# Altium footprint library LL_project.PcbLib: 15 footprints
Each footprint in its own frame and in the unit in brackets; x right, y up, seen from the top. Pads: shape width x height; smd on the part's side, far side on the other; paste and mask are expansions set on the pad; w line width, h text height; cw(c..) or ccw(c..) is an arc to the next point about the centre after c.
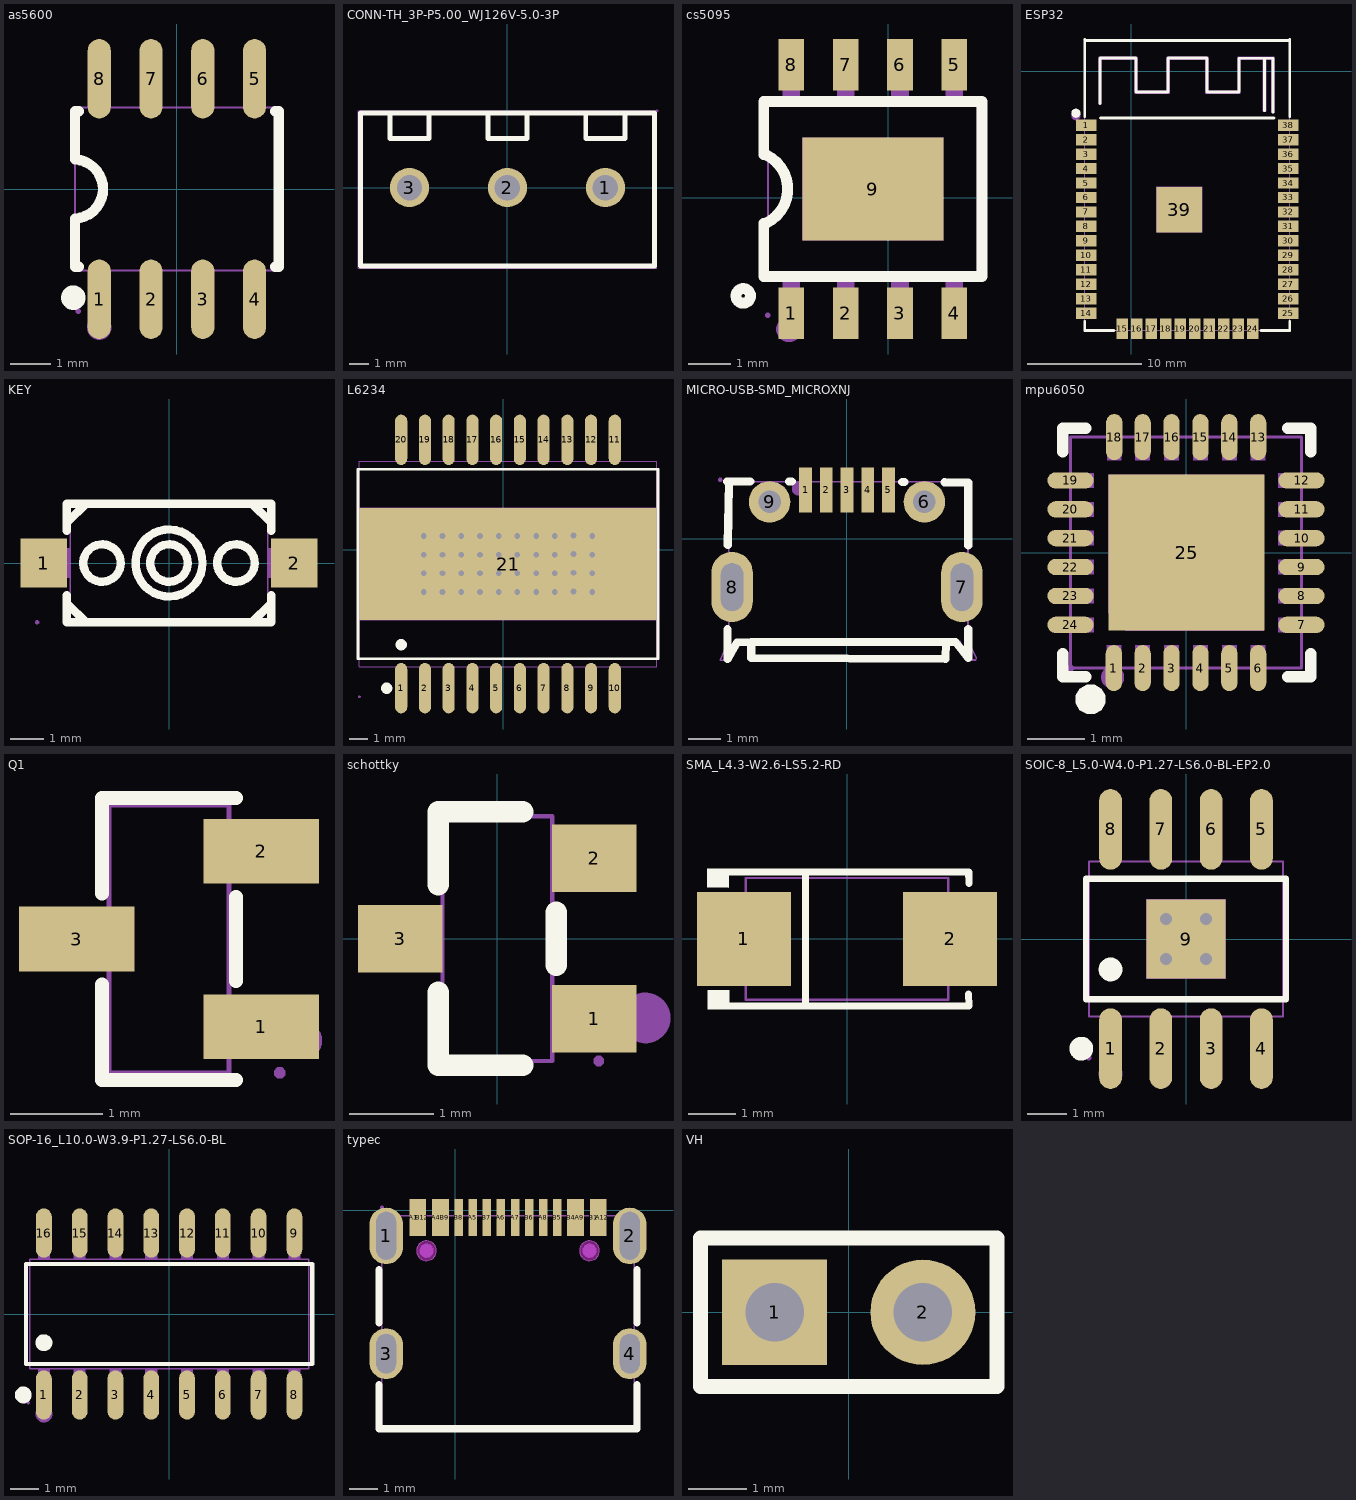
[diagram p0: the footprints below, top view; thin cyan lines are the x and y axes]

## as5600 [mil]
pads (8):
  oval 22.38x76.78 smd mask+2: 1(-75,-106.5) 2(-25,-106.5) 3(25,-106.5) 4(75,-106.5) 5(75,106.5) 6(25,106.5) 7(-25,106.5) 8(-75,106.5)
Top Overlay:
  circle w11.81: c-100,-105 r5.91
  lines w10: -98.43,-28.61 ccw(c-99.99,0) -98.23,28.59 ; -98.42,-28.61 -98.42,-59.05 -98.42,-75 -94.83,-75 ; -98.42,28.59 -98.42,59.05 -98.42,75 -94.83,75 ; 94.83,-75 98.42,-75 98.42,-59.05 98.42,59.05 98.42,75 94.83,75
Mechanical 6:
  circle w11.81: c-75,-133.86 r5.91
Mechanical 15:
  region: -83.07,-118.11 -83.07,-85.24 -66.93,-85.24 -66.93,-118.11
  region: -83.07,-85.63 -83.07,-76.38 -66.93,-76.38 -66.93,-85.63
  region: -33.07,-118.11 -33.07,-85.24 -16.93,-85.24 -16.93,-118.11
  region: -33.07,-85.63 -33.07,-76.38 -16.93,-76.38 -16.93,-85.63
  region: 16.93,-118.11 16.93,-85.24 33.07,-85.24 33.07,-118.11
  region: 16.93,-85.63 16.93,-76.38 33.07,-76.38 33.07,-85.63
  region: 66.93,-118.11 66.93,-85.24 83.07,-85.24 83.07,-118.11
  region: 66.93,-85.63 66.93,-76.38 83.07,-76.38 83.07,-85.63
  region: -83.07,85.24 -83.07,118.11 -66.93,118.11 -66.93,85.24
  region: -83.07,76.38 -83.07,85.63 -66.93,85.63 -66.93,76.38
  region: -33.07,85.24 -33.07,118.11 -16.93,118.11 -16.93,85.24
  region: -33.07,76.38 -33.07,85.63 -16.93,85.63 -16.93,76.38
  region: 16.93,85.24 16.93,118.11 33.07,118.11 33.07,85.24
  region: 16.93,76.38 16.93,85.63 33.07,85.63 33.07,76.38
  region: 66.93,85.24 66.93,118.11 83.07,118.11 83.07,85.24
  region: 66.93,76.38 66.93,85.63 83.07,85.63 83.07,76.38
  region: -92.92,-118.11 -92.92,-117.13 -94.3,-115.75 -96.26,-115.75 -97.64,-117.13 -97.64,-118.11 -97.64,-119.09 -96.26,-120.47 -94.3,-120.47 -92.92,-119.09
  lines w2: -98.42,-78.74 98.42,-78.74 98.42,78.74 -98.42,78.74 -98.42,-78.74

## CONN-TH_3P-P5.00_WJ126V-5.0-3P [mm]
pads (3):
  round 1.999 hole 1.3 mask+0.051: 1(5.001,0) 2(0,0) 3(-4.999,0)
Top Overlay:
  lines w0.254: -5.999,3.8 -5.999,2.499 -4,2.499 -4,3.8 ; -1.001,3.8 -1.001,2.499 1.001,2.499 1.001,3.8 ; 4,3.8 4,2.499 5.999,2.499 5.999,3.8 ; -7.501,-4 -2.499,-4 7.501,-4 7.501,0 7.501,3.8 -2.499,3.8 -7.501,3.8 -7.501,0 -7.501,-4
Mechanical 15:
  region: 5.552,0 5.552,0.11 5.469,0.312 5.313,0.467 5.111,0.551 4.892,0.551 4.689,0.467 4.534,0.312 4.45,0.11 4.45,0 4.45,-0.11 4.534,-0.312 4.689,-0.467 4.892,-0.551 5.111,-0.551 5.313,-0.467 5.469,-0.312 5.552,-0.11 5.552,0
  region: 0.551,0 0.551,0.11 0.467,0.312 0.312,0.467 0.11,0.551 -0.11,0.551 -0.312,0.467 -0.467,0.312 -0.551,0.11 -0.551,0 -0.551,-0.11 -0.467,-0.312 -0.312,-0.467 -0.11,-0.551 0.11,-0.551 0.312,-0.467 0.467,-0.312 0.551,-0.11 0.551,0
  region: -4.448,0 -4.448,0.11 -4.531,0.312 -4.687,0.467 -4.889,0.551 -5.108,0.551 -5.311,0.467 -5.466,0.312 -5.55,0.11 -5.55,0 -5.55,-0.11 -5.466,-0.312 -5.311,-0.467 -5.108,-0.551 -4.889,-0.551 -4.687,-0.467 -4.531,-0.312 -4.448,-0.11 -4.448,0
  region: 7.689,3.927 7.689,3.952 7.653,3.988 7.602,3.988 7.567,3.952 7.567,3.927 7.567,3.902 7.602,3.866 7.653,3.866 7.689,3.902 7.689,3.927
  lines w0.051: -7.628,-4.127 7.628,-4.127 7.628,3.927 -7.628,3.927 -7.628,-4.127

## cs5095 [mm]
pads (9):
  rect 0.6x1.2 smd mask+0.051: 1(-2.261,-2.702) 2(-0.991,-2.702) 3(0.279,-2.702) 4(1.549,-2.702) 5(1.549,3.115) 6(0.279,3.115) 7(-0.991,3.115) 8(-2.261,3.115)
  rect 3.3x2.4 smd mask+0.051: 9(-0.356,0.206)
Top Overlay:
  circle w0.254: c-3.386,-2.294 r0.17
  lines w0.254: -2.906,-0.594 -2.906,-1.844 2.194,-1.844 2.194,2.256 -2.906,2.256 -2.906,1.006 ; -2.856,-0.594 ccw(c-3.231,0.206) -2.856,1.006
Mechanical 6:
  circle w0.3: c-2.316,-3.074 r0.15
Mechanical 15:
  region: -2.75,-2.744 -2.75,-2.719 -2.785,-2.684 -2.835,-2.684 -2.87,-2.719 -2.87,-2.744 -2.87,-2.768 -2.835,-2.804 -2.785,-2.804 -2.75,-2.768
  region: -2.461,2.146 -2.461,2.516 -2.061,2.516 -2.061,2.146
  region: -2.461,2.506 -2.461,3.156 -2.061,3.156 -2.061,2.506
  region: -1.191,2.146 -1.191,2.516 -0.791,2.516 -0.791,2.146
  region: -1.191,2.506 -1.191,3.156 -0.791,3.156 -0.791,2.506
  region: 0.079,2.146 0.079,2.516 0.479,2.516 0.479,2.146
  region: 0.079,2.506 0.079,3.156 0.479,3.156 0.479,2.506
  region: 1.349,2.146 1.349,2.516 1.749,2.516 1.749,2.146
  region: 1.349,2.506 1.349,3.156 1.749,3.156 1.749,2.506
  region: -2.461,-2.104 -2.461,-1.734 -2.061,-1.734 -2.061,-2.104
  region: -2.461,-2.744 -2.461,-2.094 -2.061,-2.094 -2.061,-2.744
  region: -1.191,-2.104 -1.191,-1.734 -0.791,-1.734 -0.791,-2.104
  region: -1.191,-2.744 -1.191,-2.094 -0.791,-2.094 -0.791,-2.744
  region: 0.079,-2.104 0.079,-1.734 0.479,-1.734 0.479,-2.104
  region: 0.079,-2.744 0.079,-2.094 0.479,-2.094 0.479,-2.744
  region: 1.349,-2.104 1.349,-1.734 1.749,-1.734 1.749,-2.104
  region: 1.349,-2.744 1.349,-2.094 1.749,-2.094 1.749,-2.744
  region: 1.294,-0.994 -2.006,-0.994 -2.006,1.406 1.294,1.406
  lines w0.051: -2.806,-1.744 2.094,-1.744 2.094,2.156 -2.806,2.156 -2.806,-1.744

## ESP32 [mm]
pads (39):
  rect 1.8x1.001 smd mask+0.051: 1(-3.961,-4.734) 2(-3.961,-6.004) 3(-3.961,-7.274) 4(-3.961,-8.544) 5(-3.961,-9.814) 6(-3.961,-11.084) 7(-3.961,-12.354) 8(-3.961,-13.624) 9(-3.961,-14.894) 10(-3.961,-16.164) 11(-3.961,-17.434) 12(-3.961,-18.704) 13(-3.961,-19.974) 14(-3.961,-21.244) 25(13.741,-21.244) 26(13.741,-19.974) 27(13.741,-18.704) 28(13.741,-17.434) 29(13.741,-16.164) 30(13.741,-14.894) 31(13.741,-13.624) 32(13.741,-12.354) 33(13.741,-11.084) 34(13.741,-9.814) 35(13.741,-8.544) 36(13.741,-7.274) 37(13.741,-6.004) 38(13.741,-4.734)
  rect 1.001x1.8 smd mask+0.051: 15(-0.8,-22.595) 16(0.47,-22.595) 17(1.74,-22.595) 18(3.01,-22.595) 19(4.28,-22.595) 20(5.55,-22.595) 21(6.82,-22.595) 22(8.09,-22.595) 23(9.36,-22.595) 24(10.63,-22.595)
  rect 4x4 smd mask+0.051: 39(4.19,-12.145)
Top Overlay:
  circle w0.4: c-4.88,-3.695 r0.2
  lines w0.254: -4.102,-21.976 -4.102,-22.743 -1.531,-22.743 ; -4.102,-4.003 -4.102,2.759 ; -4.102,2.7 13.882,2.7 ; -2.763,-2.85 -2.763,1.14 0.407,1.14 0.407,-1.83 3.207,-1.83 3.207,1.14 6.607,1.14 6.607,-1.83 9.427,-1.83 9.427,1.13 12.407,1.13 12.407,-3.61 ; -2.73,-4.125 12.51,-4.125 ; 11.362,-22.743 13.882,-22.743 13.882,-21.976 ; 11.66,-3.48 11.66,1.13 ; 13.882,-4.003 13.882,2.759
Mechanical 6:
  circle w0.4: c-4.88,-3.915 r0.2
  region: 12.24,-3.625 12.24,0.995 11.85,0.995 11.8,0.995 11.8,-3.535 11.53,-3.535 11.53,0.995 9.55,0.995 9.55,-1.965 6.47,-1.965 6.47,0.995 6.46,1.005 3.35,1.005 3.35,-1.975 0.27,-1.975 0.27,1.005 -2.64,1.005 -2.64,-2.965 -2.89,-2.965 -2.89,1.265 0.52,1.265 0.52,-1.695 0.53,-1.705 3.08,-1.705 3.08,1.265 3.09,1.275 6.72,1.275 6.72,-1.695 6.73,-1.705 9.29,-1.705 9.3,-1.695 9.3,1.245 9.29,1.255 12.53,1.255 12.53,-3.635
Mechanical 15:
  drawing of 44 lines, arcs and shapes, not listed

## KEY [mm]
pads (2):
  rect 1.4x1.5 smd mask+0.051: 1(-3.8,0) 2(3.8,0)
Top Overlay:
  circle w0.254: c0,0 r0.568
  circle w0.254: c0,0 r1.016
  circle w0.254: c2.032,0 r0.568
  circle w0.254: c-2.032,0 r0.568
  lines w0.254: -3.1,-0.981 -3.1,-1.8 3.1,-1.8 3.1,-0.981 ; -3.1,0.981 -3.1,1.8 3.1,1.8 3.1,0.981 ; -3.048,-1.27 -2.54,-1.778 ; -3.048,1.27 -2.54,1.778 ; 2.54,-1.778 3.048,-1.27 ; 2.54,1.778 3.048,1.27
Mechanical 15:
  region: -3.94,-1.8 -3.94,-1.775 -3.975,-1.74 -4.025,-1.74 -4.06,-1.775 -4.06,-1.8 -4.06,-1.825 -4.025,-1.86 -3.975,-1.86 -3.94,-1.825
  region: 2.99,-0.45 2.99,0.45 3.31,0.45 3.31,-0.45
  region: 3.3,-0.45 3.3,0.45 4,0.45 4,-0.45
  region: -3.3,0.45 -3.3,-0.45 -4,-0.45 -4,0.45
  region: -2.99,0.45 -2.99,-0.45 -3.31,-0.45 -3.31,0.45
  lines w0.051: -3,-1.8 -3,1.8 3,1.8 3,-1.8 -3,-1.8

## L6234 [mil]
pads (21):
  oval 25.6x106.1 smd mask+2: 1(-214.7,-291.4) 2(-164.7,-291.4) 3(-114.7,-291.4) 4(-64.7,-291.4) 5(-14.7,-291.4) 6(35.3,-291.4) 7(85.3,-291.4) 8(135.3,-291.4) 9(185.3,-291.4) 10(235.3,-291.4) 11(235.3,232) 12(185.3,232) 13(135.3,232) 14(85.3,232) 15(35.3,232) 16(-14.7,232) 17(-64.7,232) 18(-114.7,232) 19(-164.7,232) 20(-214.7,232)
  rect 626x236.2 smd mask+2: 21(10.3,-29.7)
via -166.9,29.4 diameter 24 hole 12
via -127.5,29.4 diameter 24 hole 12
via -88.1,29.4 diameter 24 hole 12
via -48.7,29.4 diameter 24 hole 12
via -9.4,29.4 diameter 24 hole 12
via 30,29.4 diameter 24 hole 12
via 70,29.4 diameter 24 hole 12
via 108.7,29.4 diameter 24 hole 12
via 148.1,30.5 diameter 24 hole 12
via 187.5,29.4 diameter 24 hole 12
via -166.9,-10 diameter 24 hole 12
via -127.5,-10 diameter 24 hole 12
via -88.1,-10 diameter 24 hole 12
via -48.7,-10 diameter 24 hole 12
via -9.4,-10 diameter 24 hole 12
via 30,-10 diameter 24 hole 12
via 70,-10 diameter 24 hole 12
via 108.7,-10 diameter 24 hole 12
via 148.1,-8.8 diameter 24 hole 12
via 187.5,-10 diameter 24 hole 12
via -166.9,-49.4 diameter 24 hole 12
via -127.5,-49.4 diameter 24 hole 12
via -88.1,-49.4 diameter 24 hole 12
via -48.7,-49.4 diameter 24 hole 12
via -9.4,-49.4 diameter 24 hole 12
via 30,-49.4 diameter 24 hole 12
via 70,-49.4 diameter 24 hole 12
via 108.7,-49.4 diameter 24 hole 12
via 148.1,-48.2 diameter 24 hole 12
via 187.5,-49.4 diameter 24 hole 12
via -166.9,-88.8 diameter 24 hole 12
via -127.5,-88.8 diameter 24 hole 12
via -88.1,-88.8 diameter 24 hole 12
via -48.8,-88.8 diameter 24 hole 12
via -9.4,-88.8 diameter 24 hole 12
via 30,-88.8 diameter 24 hole 12
via 70,-88.8 diameter 24 hole 12
via 108.7,-88.8 diameter 24 hole 12
via 148.1,-87.6 diameter 24 hole 12
via 187.5,-88.8 diameter 24 hole 12
Top Overlay:
  circle w11.8: c-245.3,-291.4 r5.9
  circle w11.8: c-214.7,-199.7 r5.9
  lines w6: -305.7,-229.4 326.3,-229.4 326.3,170 -305.7,170 -305.7,-229.4
Mechanical 6:
  circle w11.8: c-214.7,-325 r5.9
Mechanical 15:
  drawing of 46 lines, arcs and shapes, not listed

## MICRO-USB-SMD_MICROXNJ [mm]
pads (9):
  rect 0.4x1.4 smd mask+0.051: 1(-1.3,1.521) 2(-0.65,1.521) 3(0,1.521) 4(0.65,1.521) 5(1.3,1.521)
  round 1.3 hole 0.7 mask+0.051: 6(2.425,1.149) 9(-2.425,1.149)
  oval 1.3x2.2 hole 0.7 slot 1.5 at 90 deg mask+0.051: 7(3.6,-1.521) 8(-3.6,-1.521)
Top Overlay:
  lines w0.254: -3.76,1.79 -3.031,1.787 ; -3.745,-2.84 -3.75,-3.78 -3.45,-3.26 -3,-3.24 ; -3.733,-0.2 -3.732,-0.026 ; -3.731,0.007 -3.735,-0.201 -3.7,1.76 ; -1.814,1.782 -1.731,1.782 ; 1.731,1.768 1.799,1.768 ; 3.056,1.763 3.8,1.76 3.8,-0.213 ; 3.8,-2.829 3.8,-3.74 3.4,-3.24 3.1,-3.24 ; -3,-3.24 3.1,-3.24 ; -3,-3.24 -3,-3.74 3.09,-3.77 3.1,-3.24
Top Paste:
  drawing of 9 lines, arcs and shapes, not listed
Mechanical 6:
  circle w0.2: c-1.53,1.554 r0.1
Mechanical 15:
  region: 1.175,0.841 1.175,1.841 1.425,1.841 1.425,0.841
  region: 0.525,0.841 0.525,1.841 0.775,1.841 0.775,0.841
  region: -0.125,0.841 -0.125,1.841 0.125,1.841 0.125,0.841
  region: -0.775,0.841 -0.775,1.841 -0.525,1.841 -0.525,0.841
  region: -1.425,0.841 -1.425,1.841 -1.175,1.841 -1.175,0.841
  region: 2.175,1.049 2.175,1.249 2.675,1.249 2.675,1.049
  region: -2.675,1.049 -2.675,1.249 -2.175,1.249 -2.175,1.049
  region: 3.45,-1.066 3.75,-1.066 3.75,-1.976 3.45,-1.976
  region: -3.75,-1.066 -3.45,-1.066 -3.45,-1.976 -3.75,-1.976
  region: -3.91,1.841 -3.91,1.866 -3.945,1.901 -3.995,1.901 -4.03,1.866 -4.03,1.841 -4.03,1.816 -3.995,1.781 -3.945,1.781 -3.91,1.816
  lines w0.051: -3.97,-3.806 -3.7,-3.206 -3.7,1.774 -3.7,1.784 3.79,1.784 3.79,-3.196 4.05,-3.746 4.03,-3.806 3.83,-3.806 3.54,-3.216 3.15,-3.216 3.15,-3.816 -3.03,-3.806 -3.05,-3.806 -3.05,-3.216 -3.45,-3.216 -3.74,-3.816 -3.97,-3.806

## mpu6050 [mm]
pads (25):
  oval 0.28x0.8 smd mask+0.05: 1(-1.25,-2) 2(-0.75,-2) 3(-0.25,-2) 4(0.25,-2) 5(0.75,-2) 6(1.25,-2) 13(1.25,2) 14(0.75,2) 15(0.25,2) 16(-0.25,2) 17(-0.75,2) 18(-1.242,2)
  oval 0.8x0.28 smd mask+0.05: 7(2,-1.25) 8(2,-0.75) 9(2,-0.25) 10(2,0.25) 11(2,0.75) 12(2,1.25) 19(-2,1.25) 20(-2,0.75) 21(-2,0.25) 22(-2,-0.25) 23(-2,-0.75) 24(-2,-1.25)
  rect 2.7x2.7 smd mask+0.05: 25(0.012,0)
Top Overlay:
  region: -1.397,-2.539 -1.397,-2.471 -1.466,-2.353 -1.584,-2.286 -1.72,-2.286 -1.837,-2.354 -1.905,-2.472 -1.905,-2.608 -1.837,-2.726 -1.72,-2.794 -1.584,-2.794 -1.466,-2.727 -1.397,-2.609 -1.397,-2.541
  lines w0.2: -2.138,-1.75 -2.138,-2.15 -1.738,-2.15 ; -2.138,1.75 -2.138,2.15 -1.738,2.15 ; 1.763,-2.15 2.163,-2.15 2.163,-1.75 ; 1.763,2.15 2.163,2.15 2.163,1.75
Top Paste:
  drawing of 25 lines, arcs and shapes, not listed
Mechanical 6:
  circle w0.2: c-1.27,-2.159 r0.1
Mechanical 15:
  region: -1.94,-2 -1.94,-1.975 -1.975,-1.94 -2.025,-1.94 -2.06,-1.975 -2.06,-2 -2.06,-2.025 -2.025,-2.06 -1.975,-2.06 -1.94,-2.025
  region: -1.35,-1.05 -1.35,1.35 1.35,1.35 1.35,-1.35 -1.05,-1.35
  region: -2,-1.375 -2,-1.125 -1.6,-1.125 -1.6,-1.375
  region: -2,-0.875 -2,-0.625 -1.6,-0.625 -1.6,-0.875
  region: -2,-0.375 -2,-0.125 -1.6,-0.125 -1.6,-0.375
  region: -2,0.125 -2,0.375 -1.6,0.375 -1.6,0.125
  region: -2,0.625 -2,0.875 -1.6,0.875 -1.6,0.625
  region: -2,1.125 -2,1.375 -1.6,1.375 -1.6,1.125
  region: -1.367,1.6 -1.367,2 -1.117,2 -1.117,1.6
  region: -0.875,1.6 -0.875,2 -0.625,2 -0.625,1.6
  region: -0.375,1.6 -0.375,2 -0.125,2 -0.125,1.6
  region: 0.125,1.6 0.125,2 0.375,2 0.375,1.6
  region: 0.625,1.6 0.625,2 0.875,2 0.875,1.6
  region: 1.125,1.6 1.125,2 1.375,2 1.375,1.6
  region: 1.6,1.125 1.6,1.375 2,1.375 2,1.125
  region: 1.6,0.625 1.6,0.875 2,0.875 2,0.625
  region: 1.6,0.125 1.6,0.375 2,0.375 2,0.125
  region: 1.6,-0.375 1.6,-0.125 2,-0.125 2,-0.375
  region: 1.6,-0.875 1.6,-0.625 2,-0.625 2,-0.875
  region: 1.6,-1.375 1.6,-1.125 2,-1.125 2,-1.375
  region: 1.125,-2 1.125,-1.6 1.375,-1.6 1.375,-2
  region: 0.625,-2 0.625,-1.6 0.875,-1.6 0.875,-2
  region: 0.125,-2 0.125,-1.6 0.375,-1.6 0.375,-2
  region: -0.375,-2 -0.375,-1.6 -0.125,-1.6 -0.125,-2
  region: -0.875,-2 -0.875,-1.6 -0.625,-1.6 -0.625,-2
  region: -1.375,-2 -1.375,-1.6 -1.125,-1.6 -1.125,-2
  lines w0.051: -2,-2 -2,2 2,2 2,-2 -2,-2

## Q1 [mm]
pads (3):
  rect 1.25x0.7 smd mask+0.051: 1(16.595,-8.187) 2(16.595,-6.287) 3(14.595,-7.237)
Top Overlay:
  lines w0.152: 14.869,-7.731 14.869,-8.763 16.321,-8.763 ; 14.869,-6.742 14.869,-5.711 16.321,-5.711 ; 16.321,-7.692 16.321,-6.781
Mechanical 6:
  circle w0.2: c17.055,-8.337 r0.1
Mechanical 15:
  region: 16.855,-8.687 16.855,-8.662 16.82,-8.627 16.77,-8.627 16.735,-8.662 16.735,-8.687 16.735,-8.712 16.77,-8.747 16.82,-8.747 16.855,-8.712
  region: 16.235,-6.502 16.235,-6.072 16.505,-6.072 16.505,-6.502
  region: 16.495,-6.502 16.495,-6.072 16.795,-6.072 16.795,-6.502
  region: 16.235,-8.402 16.235,-7.972 16.505,-7.972 16.505,-8.402
  region: 16.495,-8.402 16.495,-7.972 16.795,-7.972 16.795,-8.402
  region: 14.685,-7.452 14.685,-7.022 14.955,-7.022 14.955,-7.452
  region: 14.395,-7.452 14.395,-7.022 14.695,-7.022 14.695,-7.452
  lines w0.051: 14.945,-8.687 14.945,-5.787 16.245,-5.787 16.245,-8.687 14.945,-8.687

## schottky [mm]
pads (3):
  rect 1x0.8 smd mask+0.051: 1(1.15,-0.95) 2(1.15,0.95) 3(-1.15,0)
Top Overlay:
  lines w0.254: -0.7,-0.636 -0.7,-1.5 0.3,-1.5 ; -0.7,0.636 -0.7,1.5 0.3,1.5 ; 0.7,-0.314 0.7,0.314
Mechanical 6:
  circle w0.3: c1.753,-0.94 r0.15
Mechanical 15:
  region: -1.2,-0.2 -1.2,0.2 -0.8,0.2 -0.8,-0.2
  region: -0.81,-0.2 -0.81,0.2 -0.64,0.2 -0.64,-0.2
  region: 0.8,0.75 0.8,1.15 1.2,1.15 1.2,0.75
  region: 0.64,0.75 0.64,1.15 0.81,1.15 0.81,0.75
  region: 0.8,-1.15 0.8,-0.75 1.2,-0.75 1.2,-1.15
  region: 0.64,-1.15 0.64,-0.75 0.81,-0.75 0.81,-1.15
  region: 1.26,-1.45 1.26,-1.425 1.225,-1.39 1.175,-1.39 1.14,-1.425 1.14,-1.45 1.14,-1.475 1.175,-1.51 1.225,-1.51 1.26,-1.475
  lines w0.051: -0.65,-1.45 0.65,-1.45 0.65,1.45 -0.65,1.45 -0.65,-1.45

## SMA_L4.3-W2.6-LS5.2-RD [mm]
pads (2):
  rect 2x2 smd mask+0.051: 1(-2.2,0) 2(2.2,0)
Top Overlay:
  region: -2.52,1.502 -2.521,1.096 -2.981,1.1 -2.977,1.502
  region: -2.512,-1.096 -2.513,-1.503 -2.973,-1.498 -2.969,-1.096
  lines w0.152: -2.596,-1.426 2.596,-1.426 ; -2.596,1.426 2.596,1.426 2.603,1.187 ; -0.884,-1.426 -0.884,1.426 ; 2.593,-1.176 2.6,-1.415
Mechanical 6:
  region: -2.317,-0.101 -2.317,0.101 -1.507,0.101 -1.507,-0.101
  region: 2.29,-0.09 2.29,0.112 1.48,0.112 1.48,-0.09
  region: 2.014,-0.675 2.014,0.675 1.811,0.675 1.811,-0.675
Mechanical 15:
  region: -2.545,-1.3 -2.545,-1.275 -2.58,-1.24 -2.63,-1.24 -2.665,-1.275 -2.665,-1.3 -2.665,-1.325 -2.63,-1.36 -2.58,-1.36 -2.545,-1.325
  region: 2.605,0.725 2.605,-0.725 1.48,-0.725 1.48,0.725
  region: -1.48,0.725 -1.48,-0.725 -2.605,-0.725 -2.605,0.725
  lines w0.051: -2.16,-1.3 -2.16,1.3 2.16,1.3 2.16,-1.3 -2.16,-1.3

## SOIC-8_L5.0-W4.0-P1.27-LS6.0-BL-EP2.0 [mil]
pads (9):
  oval 22.6x80.2 smd mask+2: 1(-75,-109) 2(-25,-109) 3(25,-109) 4(75,-109) 5(75,109) 6(25,109) 7(-25,109) 8(-75,109)
  rect 78.7x78.7 smd mask+2: 9(0,0)
via 19.7,-19.7 diameter 24 hole 12
via -19.7,-19.7 diameter 24 hole 12
via -19.7,19.7 diameter 24 hole 12
via 19.7,19.7 diameter 24 hole 12
Top Overlay:
  circle w11.8: c-104.1,-109 r5.9
  circle w11.8: c-75,-30.3 r5.9
  lines w6: -99.5,-59.9 99.5,-59.9 99.5,59.9 -99.5,59.9 -99.5,-59.9
Mechanical 6:
  circle w11.8: c-75,-133.9 r5.9
Mechanical 15:
  region: -39.4,-39.4 -39.4,39.4 39.4,39.4 39.4,-39.4
  region: 66.9,85.6 66.9,76.4 83.1,76.4 83.1,85.6
  region: 66.9,118.1 66.9,85.2 83.1,85.2 83.1,118.1
  region: 16.9,85.6 16.9,76.4 33.1,76.4 33.1,85.6
  region: 16.9,118.1 16.9,85.2 33.1,85.2 33.1,118.1
  region: -33.1,85.6 -33.1,76.4 -16.9,76.4 -16.9,85.6
  region: -33.1,118.1 -33.1,85.2 -16.9,85.2 -16.9,118.1
  region: -83.1,85.6 -83.1,76.4 -66.9,76.4 -66.9,85.6
  region: -83.1,118.1 -83.1,85.2 -66.9,85.2 -66.9,118.1
  region: 66.9,-85.6 66.9,-76.4 83.1,-76.4 83.1,-85.6
  region: 66.9,-118.1 66.9,-85.2 83.1,-85.2 83.1,-118.1
  region: 16.9,-85.6 16.9,-76.4 33.1,-76.4 33.1,-85.6
  region: 16.9,-118.1 16.9,-85.2 33.1,-85.2 33.1,-118.1
  region: -33.1,-85.6 -33.1,-76.4 -16.9,-76.4 -16.9,-85.6
  region: -33.1,-118.1 -33.1,-85.2 -16.9,-85.2 -16.9,-118.1
  region: -83.1,-85.6 -83.1,-76.4 -66.9,-76.4 -66.9,-85.6
  region: -83.1,-118.1 -83.1,-85.2 -66.9,-85.2 -66.9,-118.1
  region: -94.1,-118.1 -94.1,-117.11 -95.51,-115.7 -97.49,-115.7 -98.9,-117.11 -98.9,-118.1 -98.9,-119.09 -97.49,-120.5 -95.51,-120.5 -94.1,-119.09
  lines w2: -96.5,-76.8 96.5,-76.8 96.5,76.8 -96.5,76.8 -96.5,-76.8

## SOP-16_L10.0-W3.9-P1.27-LS6.0-BL [mm]
pads (16):
  oval 0.56x1.745 smd mask+0.051: 1(-4.445,-2.872) 2(-3.175,-2.872) 3(-1.905,-2.872) 4(-0.635,-2.872) 5(0.635,-2.872) 6(1.905,-2.872) 7(3.175,-2.872) 8(4.445,-2.872) 9(4.445,2.872) 10(3.175,2.872) 11(1.905,2.872) 12(0.635,2.872) 13(-0.635,2.872) 14(-1.905,2.872) 15(-3.175,2.872) 16(-4.445,2.872)
Top Overlay:
  circle w0.3: c-4.445,-1.019 r0.15
  circle w0.3: c-5.177,-2.872 r0.15
  lines w0.152: -5.076,-1.771 -5.076,1.771 5.076,1.771 5.076,-1.771 -5.076,-1.771
Mechanical 6:
  circle w0.3: c-4.445,-3.55 r0.15
Mechanical 15:
  drawing of 37 lines, arcs and shapes, not listed

## typec [mm]
pads (20):
  oval 1.2x2 hole 0.7 slot 1.7 at 90 deg mask+0.051: 1(-2.452,-0.902) 2(6.188,-0.902)
  oval 1.2x1.8 hole 0.7 slot 1.4 at 90 deg mask+0.051: 3(-2.452,-5.082) 4(6.188,-5.082)
  rect 0.3x1.3 smd mask+0.05: A1(-1.482,-0.252) A4(-0.682,-0.252) A5(0.618,-0.252) A6(1.618,-0.252) A7(2.118,-0.252) A8(3.118,-0.252) A9(4.418,-0.252) A12(5.218,-0.252) B1(4.918,-0.252) B4(4.118,-0.252) B5(3.618,-0.252) B6(2.618,-0.252) B7(1.118,-0.252) B8(0.118,-0.252) B9(-0.382,-0.252) B12(-1.182,-0.252)
Top Overlay:
  lines w0.254: -2.704,-6.174 -2.704,-7.747 6.44,-7.747 6.44,-6.174 ; -2.704,-3.99 -2.704,-2.094 ; 6.44,-3.99 6.44,-2.094
Top Paste:
  drawing of 16 lines, arcs and shapes, not listed
Keep-Out Layer:
  board cut-out: -0.672,-1.432 -0.672,-1.362 -0.725,-1.234 -0.824,-1.135 -0.952,-1.082 -1.092,-1.082 -1.22,-1.135 -1.319,-1.234 -1.372,-1.362 -1.372,-1.432 -1.372,-1.502 -1.319,-1.63 -1.22,-1.729 -1.092,-1.782 -0.952,-1.782 -0.824,-1.729 -0.725,-1.63 -0.672,-1.502
  board cut-out: 5.108,-1.432 5.108,-1.362 5.055,-1.234 4.956,-1.135 4.828,-1.082 4.688,-1.082 4.56,-1.135 4.461,-1.234 4.408,-1.362 4.408,-1.432 4.408,-1.502 4.461,-1.63 4.56,-1.729 4.688,-1.782 4.828,-1.782 4.956,-1.729 5.055,-1.63 5.108,-1.502
Mechanical 1:
  circle w0.005: c-1.022,-1.432 r0.35
  circle w0.005: c4.758,-1.432 r0.35
Mechanical 6:
  circle w0.25: c-1.022,-1.432 r0.125
  circle w0.25: c4.758,-1.432 r0.125
Mechanical 15:
  region: -2.542,0.103 -2.542,0.128 -2.577,0.163 -2.627,0.163 -2.662,0.128 -2.662,0.103 -2.662,0.078 -2.627,0.043 -2.577,0.043 -2.542,0.078
  region: -2.602,-0.352 -2.302,-0.352 -2.302,-1.452 -2.602,-1.452
  region: 6.038,-0.352 6.338,-0.352 6.338,-1.452 6.038,-1.452
  region: -2.602,-4.682 -2.302,-4.682 -2.302,-5.482 -2.602,-5.482
  region: 6.038,-4.682 6.338,-4.682 6.338,-5.482 6.038,-5.482
  region: 3.018,0.103 3.218,0.103 3.218,-0.897 3.018,-0.897
  region: 3.518,0.103 3.718,0.103 3.718,-0.897 3.518,-0.897
  region: 2.518,0.103 2.718,0.103 2.718,-0.897 2.518,-0.897
  region: 2.018,0.103 2.218,0.103 2.218,-0.897 2.018,-0.897
  region: 1.518,0.103 1.718,0.103 1.718,-0.897 1.518,-0.897
  region: 1.018,0.103 1.218,0.103 1.218,-0.897 1.018,-0.897
  region: 0.518,0.103 0.718,0.103 0.718,-0.897 0.518,-0.897
  region: 0.018,0.103 0.218,0.103 0.218,-0.897 0.018,-0.897
  region: -0.535,0.103 -0.335,0.103 -0.335,-0.897 -0.535,-0.897
  region: -0.734,0.103 -0.534,0.103 -0.534,-0.897 -0.734,-0.897
  region: -1.335,0.103 -1.135,0.103 -1.135,-0.897 -1.335,-0.897
  region: -1.534,0.103 -1.334,0.103 -1.334,-0.897 -1.534,-0.897
  region: 4.066,0.103 4.266,0.103 4.266,-0.897 4.066,-0.897
  region: 4.265,0.103 4.465,0.103 4.465,-0.897 4.265,-0.897
  region: 4.869,0.103 5.069,0.103 5.069,-0.897 4.869,-0.897
  region: 5.067,0.103 5.267,0.103 5.267,-0.897 5.067,-0.897
  lines w0.051: -2.602,-7.747 -2.602,-0.197 6.338,-0.197 6.338,-7.747 -2.602,-7.747

## VH [mm]
pads (2):
  rect 1.8x1.8 hole 1 mask+0.051: 1(-1.27,0)
  round 1.8 hole 1 mask+0.051: 2(1.27,0)
Top Overlay:
  lines w0.254: -2.54,-1.27 2.54,-1.27 2.54,1.27 -2.54,1.27 -2.54,-1.27
Mechanical 15:
  region: -2.48,-1.27 -2.48,-1.245 -2.515,-1.21 -2.565,-1.21 -2.6,-1.245 -2.6,-1.27 -2.6,-1.295 -2.565,-1.33 -2.515,-1.33 -2.48,-1.295
  region: -1.59,0.32 -0.95,0.32 -0.95,-0.32 -1.59,-0.32
  region: 0.95,0.32 1.59,0.32 1.59,-0.32 0.95,-0.32
  lines w0.051: -2.54,-1.27 -2.54,1.27 2.54,1.27 2.54,-1.27 -2.54,-1.27